# EAGLE library part PCT2075GV (library maxorig)
PCT2075 - I2C bus digital temperature sensor and thermal watchdog Can be used as a simple thermostat, pulls OS pin low or high when a high temp is reached, and returns to original state when temp reaches low setpoint. Three devices can be used on the same bus due to unique tri-state address pin, non-TSOP6 versions have 3 address pins for 27 possible addresses. Technical specifications: VCC: 2.7-5.5V Range: -55 to +125 C Resolution: 11 bits OS pin polarity selectable in software
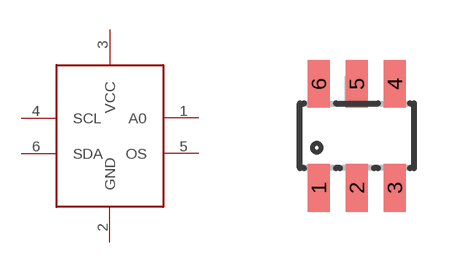
[diagram p25: symbol with the pads of SOT23-6; footprint SOT23-6]

Designator prefix -

## PCT2075GV  [SOT23-6]
1  A0
2  GND
3  VCC
4  SCL
5  OS
6  SDA

## Footprint SOT23-6 (pad centres in mm)
smd 0.55 x 1.2: 1 -0.95,-1.3; 2 0,-1.3; 3 0.95,-1.3; 4 0.95,1.3; 5 0,1.3; 6 -0.95,1.3